# Altium schematic symbol library MAX14937.SchLib: 1 symbol
Pins are listed as number, name and electrical type; pins without a type are passive.

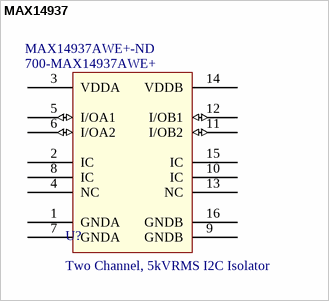
[diagram p0: symbol MAX14937]

## MAX14937
designator U?, comment Two Channel, 5kVRMS I2C Isolator  Supplier Part Number 1: 700-MAX14937AWE+  Supplier Part Number 2: MAX14937AWE+-ND
Supplier 1: Mouser; Supplier 2: Digi-Key
footprint 90-0107 (SOIC Wide 16)
pins: 1 GNDA (power), 2 IC, 3 VDDA (power), 4 NC, 5 I/OA1 (io), 6 I/OA2 (io), 7 GNDA (power), 8 IC, 9 GNDB (power), 10 IC, 11 I/OB2 (io), 12 I/OB1 (io), 13 NC, 14 VDDB (power), 15 IC, 16 GNDB (power)